# EAGLE library part FPC-FFC-CONNECTOR-08-1MM-L (library obd_special)
FPC FFC CONNECTOR 8 PIN 1MM direct connection
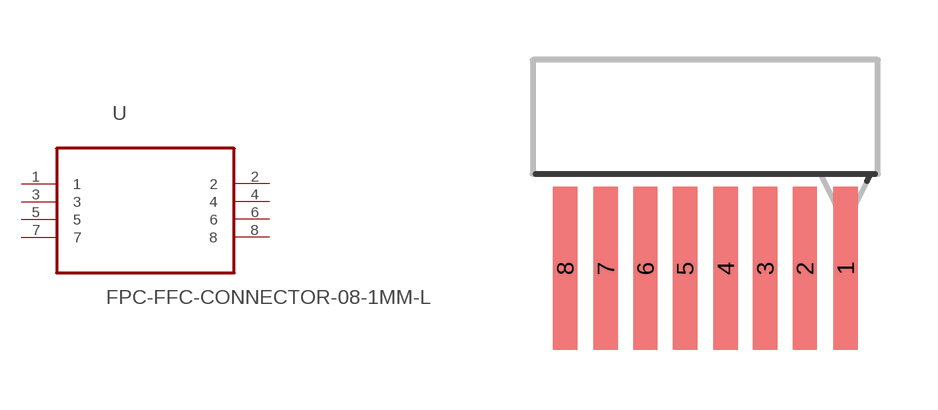
[diagram p1: symbol with the pads of FPC-FFC-CONNECTOR-08-1MM-L; footprint FPC-FFC-CONNECTOR-08-1MM-L]

Designator prefix U

## FPC-FFC-CONNECTOR-08-1MM-L  [FPC-FFC-CONNECTOR-08-1MM-L]
1  1  pas
2  2  pas
3  3  pas
4  4  pas
5  5  pas
6  6  pas
7  7  pas
8  8  pas

## Footprint FPC-FFC-CONNECTOR-08-1MM-L (pad centres in mm)
smd 0.61 x 4.064: 1 3.505,-2.057; 2 2.489,-2.057; 3 1.499,-2.057; 4 0.508,-2.057; 5 -0.508,-2.057; 6 -1.499,-2.057; 7 -2.489,-2.057; 8 -3.505,-2.057